# EAGLE library part AS6C1008-55PCN (library AS6C1008-55PCN)
CMOS SRAM Source: Datasheet <http://componentsearchengine.com/Datasheets/1/AS6C1008-55PCN.pdf>
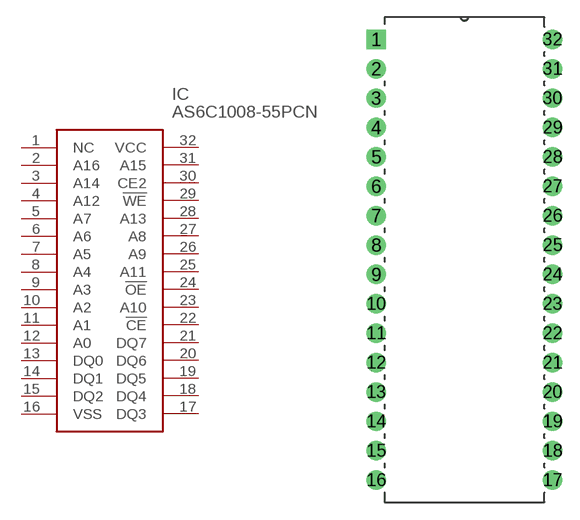
[diagram p0: symbol with the pads of DIP254P1524X393-32; footprint DIP254P1524X393-32]

Designator prefix IC

## AS6C1008-55PCN (Description: CMOS SRAM; Height: mm; Manufacturer_Name: Alliance Memory; Manufacturer_Part_Number: AS6C1008-55PCN; Mouser_Part_Number: 913-AS6C1008-55PCN; Mouser_Price-Stock: https://www.mouser.co.uk/ProductDetail/Alliance-Memory/AS6C1008-55PCN?qs=E5c5%252Bmu3i39qb4Qta5D2qg%3D%3D)  [DIP254P1524X393-32]
1  NC  nc
2  A16
3  A14
4  A12
5  A7
6  A6
7  A5
8  A4
9  A3
10  A2
11  A1
12  A0
13  DQ0
14  DQ1
15  DQ2
16  VSS
17  DQ3
18  DQ4
19  DQ5
20  DQ6
21  DQ7
22  !CE
23  A10
24  !OE
25  A11
26  A9
27  A8
28  A13
29  !WE
30  CE2
31  A15
32  VCC

## Footprint DIP254P1524X393-32 (pad centres in mm)
DIP254P1524X393-32
drill 1.118 pad 1.676 square: 1 -15.24,38.1
drill 1.118 pad 1.676: 2 -15.24,35.56; 3 -15.24,33.02; 4 -15.24,30.48; 5 -15.24,27.94; 6 -15.24,25.4; 7 -15.24,22.86; 8 -15.24,20.32; 9 -15.24,17.78; 10 -15.24,15.24; 11 -15.24,12.7; 12 -15.24,10.16; 13 -15.24,7.62; 14 -15.24,5.08; 15 -15.24,2.54; 16 -15.24,0; 17 0,0; 18 0,2.54; 19 0,5.08; 20 0,7.62; 21 0,10.16; 22 0,12.7; 23 0,15.24; 24 0,17.78; 25 0,20.32; 26 0,22.86; 27 0,25.4; 28 0,27.94; 29 0,30.48; 30 0,33.02; 31 0,35.56; 32 0,38.1